# Altium schematic symbol library MC68HC908GR8.SchLib: 1 symbol
Pins are listed as number, name and electrical type; pins without a type are passive.

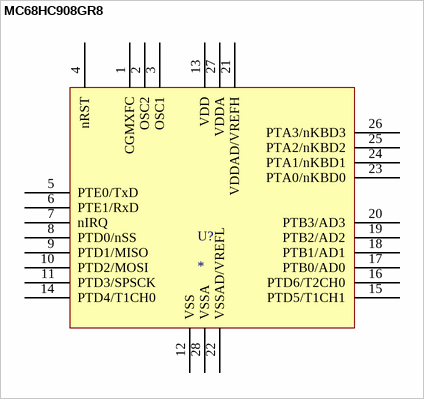
[diagram p0: symbol MC68HC908GR8]

## MC68HC908GR8
designator U?
HC08 Microcontroller IC 8-Bit 8MHz 7680Bytes (7680 x 8) FLASH 28-PDIP
footprint PDIP28
pins: 1 CGMXFC, 2 OSC2, 3 OSC1, 4 nRST, 5 PTE0/TxD, 6 PTE1/RxD, 7 nIRQ, 8 PTD0/nSS, 9 PTD1/MISO, 10 PTD2/MOSI, 11 PTD3/SPSCK, 12 VSS, 13 VDD, 14 PTD4/T1CH0, 15 PTD5/T1CH1, 16 PTD6/T2CH0, 17 PTB0/AD0, 18 PTB1/AD1, 19 PTB2/AD2, 20 PTB3/AD3, 21 VDDAD/VREFH, 22 VSSAD/VREFL, 23 PTA0/nKBD0, 24 PTA1/nKBD1, 25 PTA2/nKBD2, 26 PTA3/nKBD3, 27 VDDA, 28 VSSA